# EAGLE library part H8-UDI (library Mechanical)
Hitachi H8 UDI Debug Port Connector
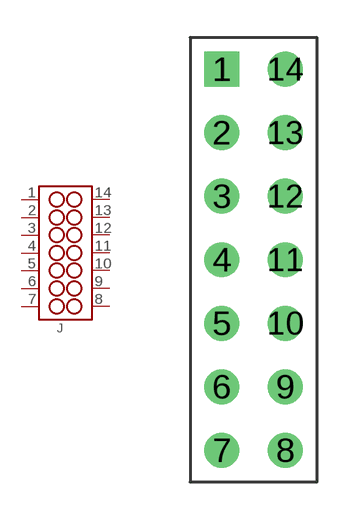
[diagram p24: symbol with the pads of HD-UDI; footprint HD-UDI]

Designator prefix J

## H8-UDI  [HD-UDI]
1  1
2  2
3  3
4  4
5  5
6  6
7  7
8  8
9  9
10  10
11  11
12  12
13  13
14  14

## Footprint HD-UDI (pad centres in mm)
drill 0.889 square: 1 -1.27,7.62
drill 0.889: 2 -1.27,5.08; 3 -1.27,2.54; 4 -1.27,0; 5 -1.27,-2.54; 6 -1.27,-5.08; 7 -1.27,-7.62; 8 1.27,-7.62; 9 1.27,-5.08; 10 1.27,-2.54; 11 1.27,0; 12 1.27,2.54; 13 1.27,5.08; 14 1.27,7.62